# EAGLE library part JACK_NCJ6FAH (library wheat)
Jack, XLR3 + 1/4" TRS Neutrik NCJ6FAH
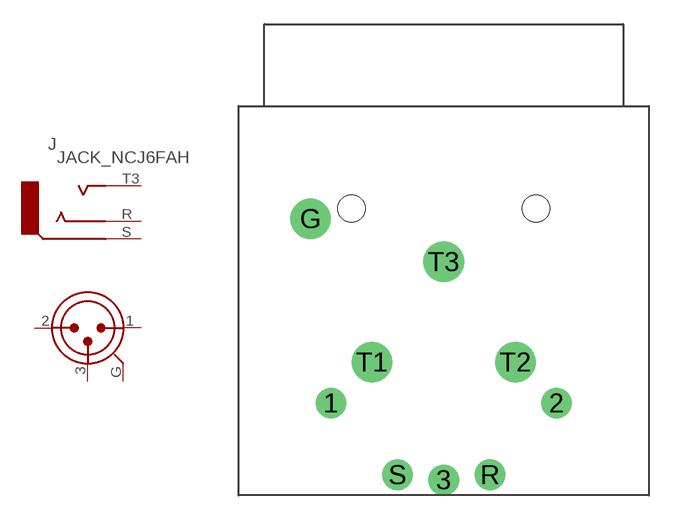
[diagram p127: symbol with the pads of NCJ6FAH; footprint NCJ6FAH]

Designator prefix J

## JACK_NCJ6FAH  [NCJ6FAH]
1  1  pas
2  2  pas
3  3  pas
G  G  pas
R  R  pas
S  S  pas
T3  T  pas

## Footprint NCJ6FAH (pad centres in mm)
Connector, XLR3 + 1/4" TRS Neutrik NCJ6FAH
drill 1.27: 1 -6.985,-18.415; 2 6.985,-18.415; 3 0,-23.177; R 2.857,-22.86; S -2.857,-22.86
drill 1.676: G -8.255,-6.985; T1 -4.445,-15.875; T2 4.445,-15.875; T3 0,-9.652
hole 1.676 at -5.715,-6.35
hole 1.676 at 5.715,-6.35